# EAGLE library part MCP1643 (library ERIC)
LED Constant Current Regulator Microchip 1 MHz Low Start-up Voltage Synchronous Boost LED Constant Current Regulator 1 MHz Low Start-up Voltage Synchronous Boost LED Constant Current Regulator
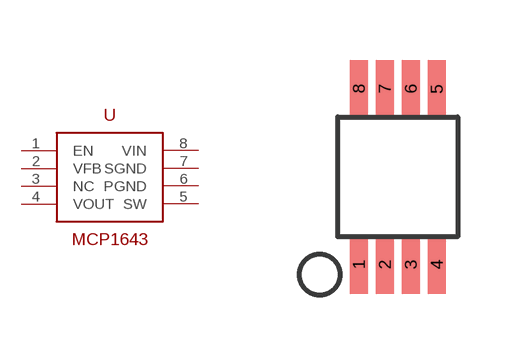
[diagram p29: symbol with the pads of MSOP_8_LEAD; footprint MSOP_8_LEAD]

Designator prefix -

## MCP1643  [MSOP_8_LEAD]
1  EN
2  VFB
3  NC  nc
4  VOUT  sup
5  SW
6  PGND
7  SGND
8  VIN  pwr

## Footprint MSOP_8_LEAD (pad centres in mm)
smd 0.45 x 1.45: 1 -0.975,-2.2; 2 -0.325,-2.2; 3 0.325,-2.2; 4 0.975,-2.2; 5 0.975,2.2; 6 0.325,2.2; 7 -0.325,2.2; 8 -0.975,2.2